# Altium schematic symbol library coilcraft.SchLib: 8 symbols
Pins are listed as number, name and electrical type; pins without a type are passive.

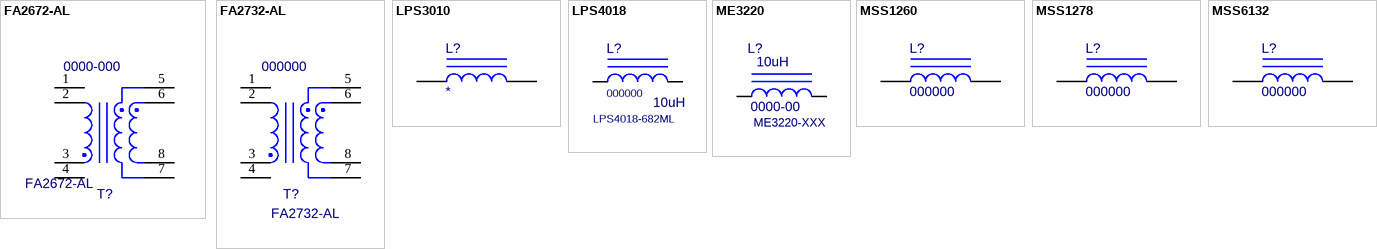
[diagram p0: symbols FA2672-AL to MSS6132]

## FA2672-AL
designator T?, comment 0000-000  value FA2672-AL
PoE Transformer; PN: 0000-000; ExtraInfo: *
footprint FA267X (PoE Transformer)
pins: 1, 2, 3, 4, 5, 6, 7, 8

## FA2732-AL
designator T?, comment 000000  value FA2732-AL
PoE Transformer; PN: 000000; ExtraInfo: *; Package: SMT
footprint FA2732 (PoE Transformer)
pins: 1, 2, 3, 4, 5, 6, 7, 8

## LPS3010
designator L?
Magnetic-Core Inductor; Value: 10uH; PN: *; ExtraInfo: *
simulation model INDUCTOR (Inductor)
signal-integrity model Inductor Iron
footprint LPS3010 (Precision Wire Wound Inductor, 2-Leads, Body 3.0x3.0mm, IPC High Density)
pins: 1, 2

## LPS4018
designator L?, comment 000000  value 10uH  MF PN: LPS4018-682ML
Magnetic-Core Inductor; PN: 000000; ExtraInfo: *
simulation model INDUCTOR (Inductor)
signal-integrity model Inductor Iron
footprint LPS4018M (Precision Wire Wound Inductor, 2-Leads, Body 4.0x5.0mm, IPC Medium Density)
pins: 1, 2

## ME3220
designator L?, comment 0000-00  value 10uH  MF PN: ME3220-XXX
Magnetic-Core Inductor; MF: Coilcraft; PN: 0000-00; ExtraInfo: *
simulation model INDUCTOR (Inductor)
signal-integrity model Inductor Iron
footprint ME3220 (SMT Power Inductor)
pins: 1, 2

## MSS1260
designator L?, comment 000000
Magnetic-Core Inductor; Value: 10uH; MF: Coilcraft; MF PN: MSS1260; PN: 000000; ExtraInfo: *
simulation model INDUCTOR (Inductor)
signal-integrity model Inductor Iron
footprint MSS1260 (Shielded Surface Mount Power Inductor)
pins: 1, 2

## MSS1278
designator L?, comment 000000
Magnetic-Core Inductor; Value: 10uH; MF PN: MSS1278-XXXML; MF: Coilcraft; PN: 000000; ExtraInfo: *
simulation model INDUCTOR (Inductor)
signal-integrity model Inductor Iron
footprint MSS1278 (Shielded Surface Mount Power Inductor)
pins: 1, 2

## MSS6132
designator L?, comment 000000
Magnetic-Core Inductor; Value: 10uH; ExtraInfo: *; PN: 000000
simulation model INDUCTOR (Inductor)
signal-integrity model Inductor Iron
footprint MSS6132 (Precision Wire Wound Inductor)
pins: 1, 2